# Altium schematic symbol library 86B_OptionBOM.Schlib: 1 symbol
Pins are listed as number, name and electrical type; pins without a type are passive.

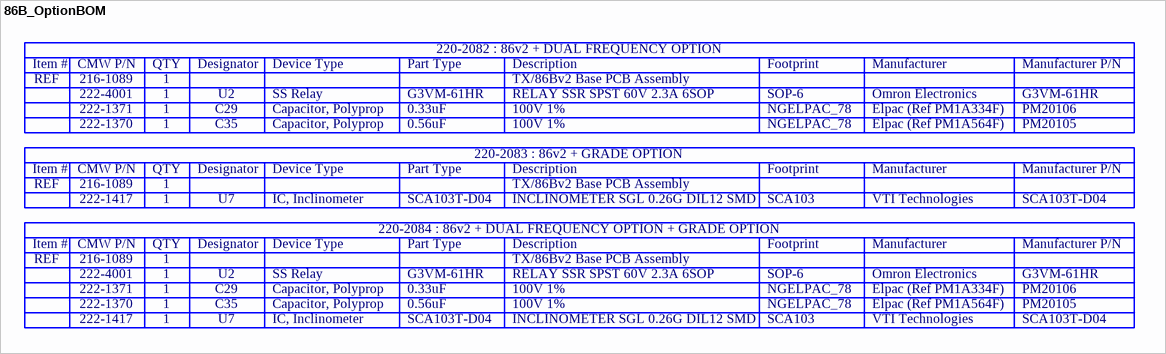
[diagram p0: symbol 86B_OptionBOM]

## 86B_OptionBOM
designator OT1
text: 220-2082 : 86v2 + DUAL FREQUENCY OPTION; Item #; CMW P/N; QTY; Designator; Device Type; Part Type; Description; Footprint; Manufacturer; Manufacturer P/N; REF; 216-1089; 1; TX/86Bv2 Base PCB Assembly; 222-4001; U2; SS Relay; G3VM-61HR; RELAY SSR SPST 60V 2.3A 6SOP; SOP-6; Omron Electronics; 222-1371; C29; Capacitor, Polyprop; 0.33uF; 100V 1%; NGELPAC_78; Elpac (Ref PM1A334F); PM20106; 222-1370; C35; 0.56uF; Elpac (Ref PM1A564F); PM20105; 220-2083 : 86v2 + GRADE OPTION; 222-1417; U7; IC, Inclinometer; SCA103T-D04; INCLINOMETER SGL 0.26G DIL12 SMD; SCA103; VTI Technologies; 220-2084 : 86v2 + DUAL FREQUENCY OPTION + GRADE OPTION